# Altium integrated library TI_Logic_Specialty_Logic.IntLib: 2504 symbols (part 65 of 81)
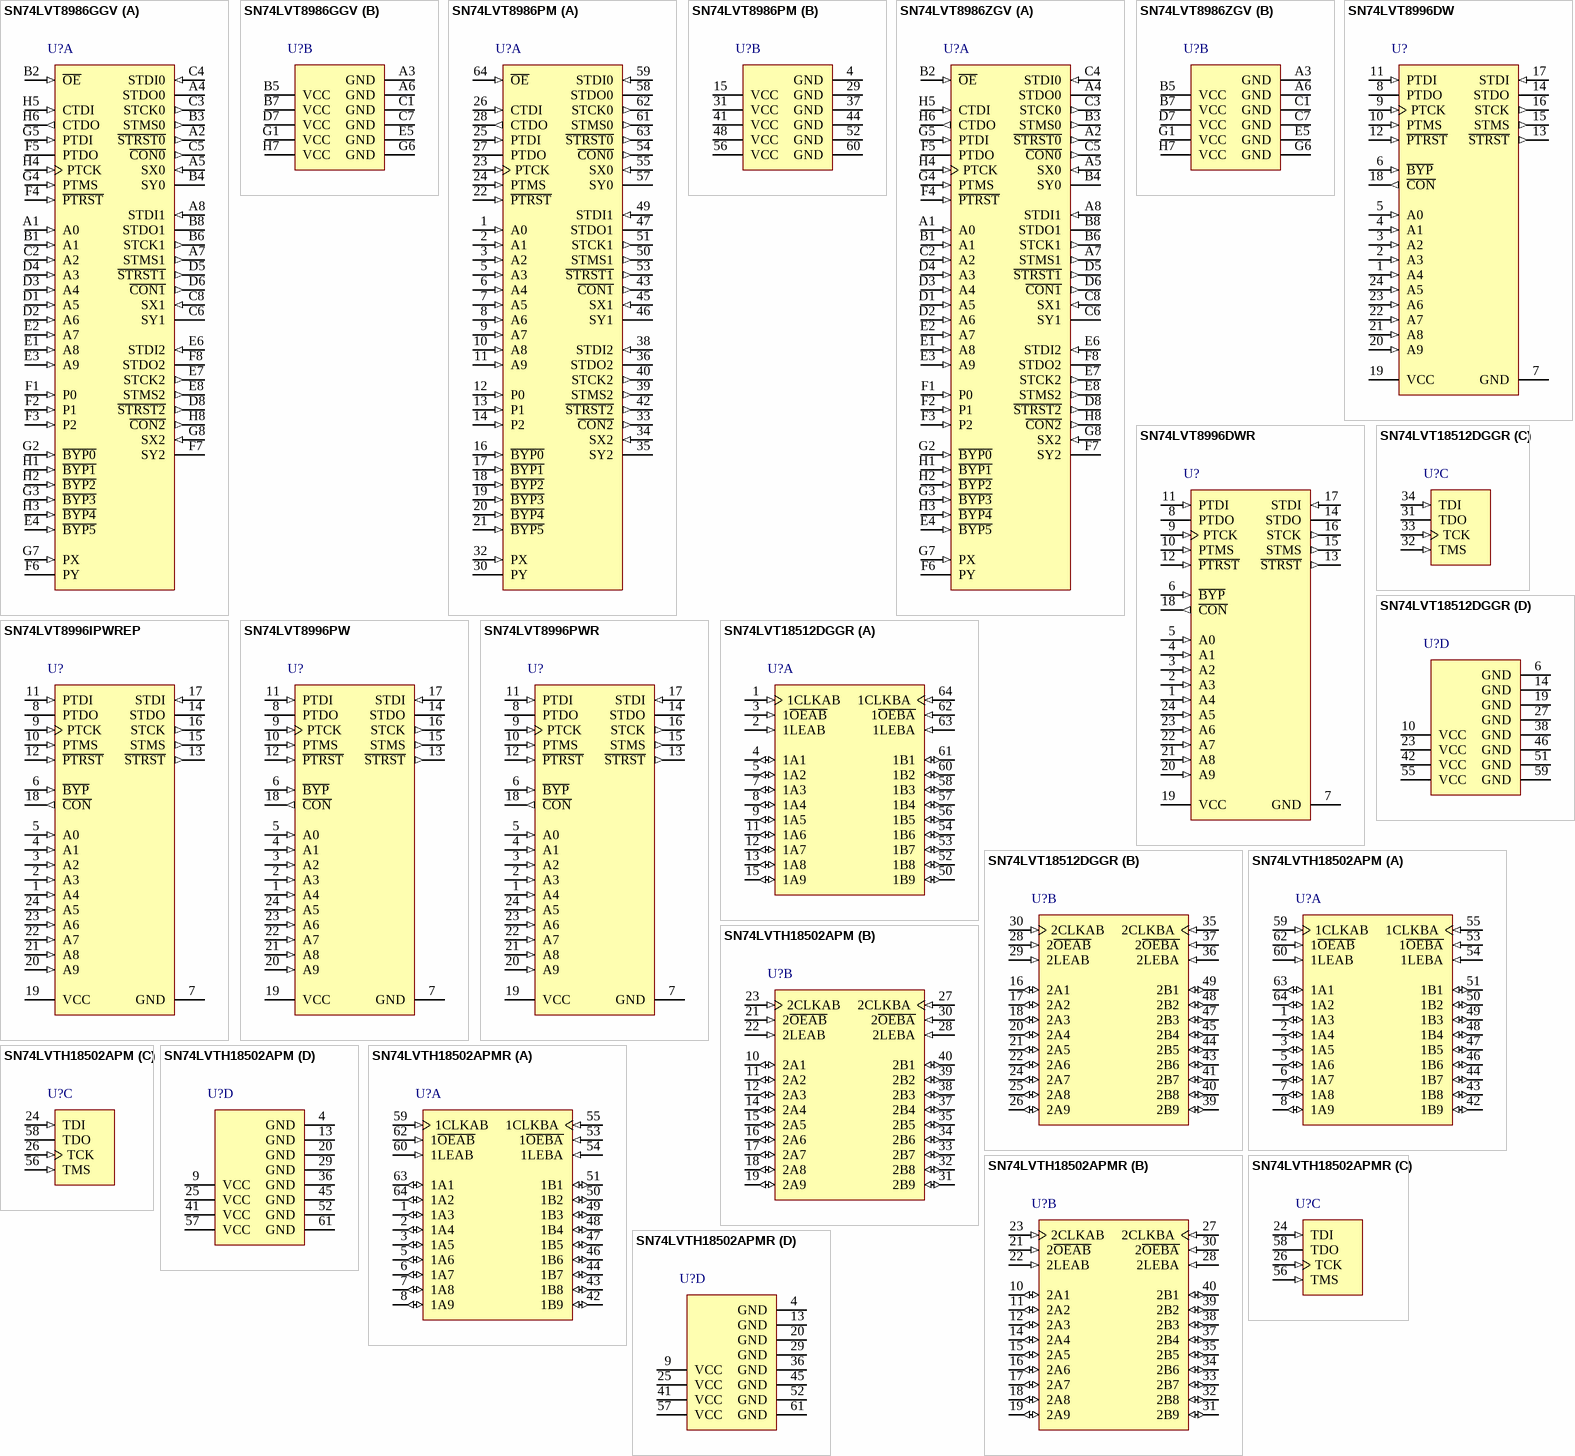
[diagram p168: symbols SN74LVT8986GGV to SN74LVTH18502APMR]

## SN74LVT8986GGV
designator U?
3.3-V Linking Addressable Scan Ports Multidrop-Addressable IEEE STD 1149.1 (JTAG) Tap Transceiver, GGV0064A, JEDEC TRAY (5+1); Generic Part Number: SN74LVT8986; Manufacturer: Texas Instruments; PartNumber: SN74LVT8986GGV; VCC(Min)(V): 2.7; VCC(Max)(V): 3.6; Output Type: LVTTL; Input Type: TTL/CMOS; Rating: Catalog; Technology Family: LVT; DatasheetVersion: SCBS759E; PackageReference: GGV0064A; Supplier 1: Mouser; Supplier Part Number 1: 595-SN74LVT8986GGV; Supplier 2: Digi-Key; Supplier Part Number 2: 296-14927-5-ND; Operating Temperature Range(C): -40 to 85; ComponentLink1Description: Manufacturer URL; ComponentLink1URL: http://www.ti.com/; ComponentLink2Description: Datasheet; ComponentLink2URL: http://www.ti.com/lit/ds/symlink/sn74lvt8986.pdf
footprint GGV0064A (BGA, 64-Leads, Body 8.00x8.00mmx1.40mm, Pitch 0.80mm)
part A pins: A1 A0 (in) "Address (inputs). The LASP compares addresses received via linking shadow protocol against the value at A9-A0 to determine address match. The bit order is from most significant to least significant. An internal pullup at (See Datasheet)", A2 ~{STRST0} (out) "Secondary test resets. S\T\R\S\T\2\-S\T\R\S\T\0\ retransmit the TRST signal allowed by IEEE Std 1149.1. The LASP always buffers S\T\R\S\T\2\-S\T\R\S\T\0\ from PTRST.", A4 STDO0 (hiz) "Secondary test data outputs. STDO2-STDO0 transmit the TDO signal required by IEEE Std 1149.1. Under BYP, BYP/TRST, MULTICAST, or ON status, the LASP buffers STDO2-STDO0 from STDI2-STDI0, PTDI, or CTDI, depending on the state (See Datasheet)", A5 SX0 (in) "Secondary pass through (inputs). General-purpose inputs that can be driven to the PY output of the primary TAP. An internal pullup forces SX2-SX0 to a high level if it has no external connection.", A7 STMS1 (out) "Secondary test mode selects. STMS2-STMS0 retransmit the TMS signal required by IEEE Std 1149.1. Under BYP, MULTICAST, or ON status, the LASP buffers STMS2-STMS0 from PTMS, depending on the state of B\Y\P\4\-B\Y\P\0\ pins or (See Datasheet)", A8 STDI1 (in) "Secondary test data inputs. STDI2-STDI0 receive the TDI signal required by IEEE Std 1149.1. Under BYP, BYP/TRST, or ON status, the LASP buffers STDI2-STDI0 to STDO2-STDO0 or PTDO, depending on the state of B\Y\P\4\-B\Y\P\0\ (See Datasheet)", B1 A1 (in) "Address (inputs). The LASP compares addresses received via linking shadow protocol against the value at A9-A0 to determine address match. The bit order is from most significant to least significant. An internal pullup at (See Datasheet)", B2 ~{OE} (in) "Output enable (input). When high, this active-low control signal puts the secondary TAPs of the LASP at high impedance to enable an alternative resource to access one or more of the three scan chains.", B3 STMS0 (out) "Secondary test mode selects. STMS2-STMS0 retransmit the TMS signal required by IEEE Std 1149.1. Under BYP, MULTICAST, or ON status, the LASP buffers STMS2-STMS0 from PTMS, depending on the state of B\Y\P\4\-B\Y\P\0\ pins or (See Datasheet)", B4 SY0 (hiz) "Secondary pass through (outputs). Primary pass-through input PX drives the general-purpose SY outputs of the secondary TAPs that are connected to the primary TAP. Disconnected secondary TAPs have their SY outputs at high (See Datasheet)", B6 STCK1 (out) "Secondary test clocks. STCK2-STCK0 retransmit the TCK signal required by IEEE Std 1149.1. The LASP always buffers STCK2-STCK0 from PTCK.", B8 STDO1 (hiz) "Secondary test data outputs. STDO2-STDO0 transmit the TDO signal required by IEEE Std 1149.1. Under BYP, BYP/TRST, MULTICAST, or ON status, the LASP buffers STDO2-STDO0 from STDI2-STDI0, PTDI, or CTDI, depending on the state (See Datasheet)", C2 A2 (in) "Address (inputs). The LASP compares addresses received via linking shadow protocol against the value at A9-A0 to determine address match. The bit order is from most significant to least significant. An internal pullup at (See Datasheet)", C3 STCK0 (out) "Secondary test clocks. STCK2-STCK0 retransmit the TCK signal required by IEEE Std 1149.1. The LASP always buffers STCK2-STCK0 from PTCK.", C4 STDI0 (in) "Secondary test data inputs. STDI2-STDI0 receive the TDI signal required by IEEE Std 1149.1. Under BYP, BYP/TRST, or ON status, the LASP buffers STDI2-STDI0 to STDO2-STDO0 or PTDO, depending on the state of B\Y\P\4\-B\Y\P\0\ (See Datasheet)", C5 ~{CON0} (out) "Connect indicators (outputs). The LASP indicates secondary-scan-port activity (resulting from BYP, BYP/TRST, MULTICAST, or ON status) by forcing the corresponding C\O\N\ bit to be low. Inactivity (resulting from OFF, RESET, (See Datasheet)", C6 SY1 (hiz) "Secondary pass through (outputs). Primary pass-through input PX drives the general-purpose SY outputs of the secondary TAPs that are connected to the primary TAP. Disconnected secondary TAPs have their SY outputs at high (See Datasheet)", C8 SX1 (in) "Secondary pass through (inputs). General-purpose inputs that can be driven to the PY output of the primary TAP. An internal pullup forces SX2-SX0 to a high level if it has no external connection.", D1 A5 (in) "Address (inputs). The LASP compares addresses received via linking shadow protocol against the value at A9-A0 to determine address match. The bit order is from most significant to least significant. An internal pullup at (See Datasheet)", D2 A6 (in) "Address (inputs). The LASP compares addresses received via linking shadow protocol against the value at A9-A0 to determine address match. The bit order is from most significant to least significant. An internal pullup at (See Datasheet)", D3 A4 (in) "Address (inputs). The LASP compares addresses received via linking shadow protocol against the value at A9-A0 to determine address match. The bit order is from most significant to least significant. An internal pullup at (See Datasheet)", D4 A3 (in) "Address (inputs). The LASP compares addresses received via linking shadow protocol against the value at A9-A0 to determine address match. The bit order is from most significant to least significant. An internal pullup at (See Datasheet)", D5 ~{STRST1} (out) "Secondary test resets. S\T\R\S\T\2\-S\T\R\S\T\0\ retransmit the TRST signal allowed by IEEE Std 1149.1. The LASP always buffers S\T\R\S\T\2\-S\T\R\S\T\0\ from PTRST.", D6 ~{CON1} (out) "Connect indicators (outputs). The LASP indicates secondary-scan-port activity (resulting from BYP, BYP/TRST, MULTICAST, or ON status) by forcing the corresponding C\O\N\ bit to be low. Inactivity (resulting from OFF, RESET, (See Datasheet)", D8 ~{STRST2} (out) "Secondary test resets. S\T\R\S\T\2\-S\T\R\S\T\0\ retransmit the TRST signal allowed by IEEE Std 1149.1. The LASP always buffers S\T\R\S\T\2\-S\T\R\S\T\0\ from PTRST.", E1 A8 (in) "Address (inputs). The LASP compares addresses received via linking shadow protocol against the value at A9-A0 to determine address match. The bit order is from most significant to least significant. An internal pullup at (See Datasheet)", E2 A7 (in) "Address (inputs). The LASP compares addresses received via linking shadow protocol against the value at A9-A0 to determine address match. The bit order is from most significant to least significant. An internal pullup at (See Datasheet)", E3 A9 (in) "Address (inputs). The LASP compares addresses received via linking shadow protocol against the value at A9-A0 to determine address match. The bit order is from most significant to least significant. An internal pullup at (See Datasheet)", E4 ~{BYP5} (in) "Bypass (inputs). A low input at B\Y\P\5\ forces the LASP into BYP or BYP/TRST status, depending on P\T\R\S\T\ being high or low, respectively. While B\Y\P\5\ is low, linking shadow protocols are ignored and the remaining (See Datasheet)", E6 STDI2 (in) "Secondary test data inputs. STDI2-STDI0 receive the TDI signal required by IEEE Std 1149.1. Under BYP, BYP/TRST, or ON status, the LASP buffers STDI2-STDI0 to STDO2-STDO0 or PTDO, depending on the state of B\Y\P\4\-B\Y\P\0\ (See Datasheet)", E7 STCK2 (out) "Secondary test clocks. STCK2-STCK0 retransmit the TCK signal required by IEEE Std 1149.1. The LASP always buffers STCK2-STCK0 from PTCK.", E8 STMS2 (out) "Secondary test mode selects. STMS2-STMS0 retransmit the TMS signal required by IEEE Std 1149.1. Under BYP, MULTICAST, or ON status, the LASP buffers STMS2-STMS0 from PTMS, depending on the state of B\Y\P\4\-B\Y\P\0\ pins or (See Datasheet)", F1 P0 (in) "Position (inputs). The LASP compares position received via linking shadow protocol against the value at P2-P0 to determine position match. The bit order is from most significant to least significant. An internal pullup at (See Datasheet)", F2 P1 (in) "Position (inputs). The LASP compares position received via linking shadow protocol against the value at P2-P0 to determine position match. The bit order is from most significant to least significant. An internal pullup at (See Datasheet)", F3 P2 (in) "Position (inputs). The LASP compares position received via linking shadow protocol against the value at P2-P0 to determine position match. The bit order is from most significant to least significant. An internal pullup at (See Datasheet)", F4 ~{PTRST} (in) "Primary test reset. P\T\R\S\T\ receives the T\R\S\T\ signal allowed by IEEE Std 1149.1. The LASP always buffers P\T\R\S\T\ to S\T\R\S\T\2\-S\T\R\S\T\0\. A low input at P\T\R\S\T\ forces the LASP to assume TRST or BYP/TRST (See Datasheet)", F5 PTDO (hiz) "Primary test data output. PTDO transmits the TDO signal required by IEEE Std 1149.1. During linking shadow protocols, the LASP transmits any required acknowledgment via the PTDO. Under BYP, BYP/TRST, or ON status, the LASP (See Datasheet)", F6 PY (hiz) "Primary pass through (output). A general-purpose output that can be driven from SX2-SX0.", F7 SY2 (hiz) "Secondary pass through (outputs). Primary pass-through input PX drives the general-purpose SY outputs of the secondary TAPs that are connected to the primary TAP. Disconnected secondary TAPs have their SY outputs at high (See Datasheet)", F8 STDO2 (hiz) "Secondary test data outputs. STDO2-STDO0 transmit the TDO signal required by IEEE Std 1149.1. Under BYP, BYP/TRST, MULTICAST, or ON status, the LASP buffers STDO2-STDO0 from STDI2-STDI0, PTDI, or CTDI, depending on the state (See Datasheet)", G2 ~{BYP0} (in) "Bypass (inputs). A low input at B\Y\P\5\ forces the LASP into BYP or BYP/TRST status, depending on P\T\R\S\T\ being high or low, respectively. While B\Y\P\5\ is low, linking shadow protocols are ignored and the remaining (See Datasheet)", G3 ~{BYP3} (in) "Bypass (inputs). A low input at B\Y\P\5\ forces the LASP into BYP or BYP/TRST status, depending on P\T\R\S\T\ being high or low, respectively. While B\Y\P\5\ is low, linking shadow protocols are ignored and the remaining (See Datasheet)", G4 PTMS (in) "Primary test mode select. PTMS receives the TMS signal required by IEEE Std 1149.1. The LASP monitors PTMS to determine the TAP-controller state. During stable TAP states, other than Shift-DR or Shift-IR (i.e., (See Datasheet)", G5 PTDI (in) "Primary test data input. PTDI receives the TDI signal required by IEEE Std 1149.1. During appropriate TAP states, the LASP monitors PTDI for linking shadow protocols. During linking shadow protocols, data at PTDI is captured (See Datasheet)", G7 PX (in) "Primary pass through (input). A general-purpose input driven to SY outputs of the secondary TAPs that are connected to the primary TAP. An internal pullup forces PX to a high level if it has no external connection.", G8 SX2 (in) "Secondary pass through (inputs). General-purpose inputs that can be driven to the PY output of the primary TAP. An internal pullup forces SX2-SX0 to a high level if it has no external connection.", H1 ~{BYP1} (in) "Bypass (inputs). A low input at B\Y\P\5\ forces the LASP into BYP or BYP/TRST status, depending on P\T\R\S\T\ being high or low, respectively. While B\Y\P\5\ is low, linking shadow protocols are ignored and the remaining (See Datasheet)", H2 ~{BYP2} (in) "Bypass (inputs). A low input at B\Y\P\5\ forces the LASP into BYP or BYP/TRST status, depending on P\T\R\S\T\ being high or low, respectively. While B\Y\P\5\ is low, linking shadow protocols are ignored and the remaining (See Datasheet)", H3 ~{BYP4} (in) "Bypass (inputs). A low input at B\Y\P\5\ forces the LASP into BYP or BYP/TRST status, depending on P\T\R\S\T\ being high or low, respectively. While B\Y\P\5\ is low, linking shadow protocols are ignored and the remaining (See Datasheet)", H4 PTCK (in) "Primary test clock. PTCK receives the TCK signal required by IEEE Std 1149.1. The LASP always buffers PTCK to STCK2-STCK0. Linking shadow protocols are received/acknowledged synchronously to PTCK and connect-status changes (See Datasheet)", H5 CTDI (in) "Cascade test data input. CTDI facilitates cascading multiple LASPs. CTDI is connected to CTDO of the preceding LASP in the cascade chain. When the LASP is the first device in the cascade chain or is not cascaded to any other (See Datasheet)", H6 CTDO (out) "Cascade test data output. CTDO facilitates cascading multiple LASPs. CTDO is connected to CTDI of the succeeding LASP in the cascade chain. The LASP buffers CTDO from STDI2-STDI0 or CTDI, depending on the state of (See Datasheet)", H8 ~{CON2} (out) "Connect indicators (outputs). The LASP indicates secondary-scan-port activity (resulting from BYP, BYP/TRST, MULTICAST, or ON status) by forcing the corresponding C\O\N\ bit to be low. Inactivity (resulting from OFF, RESET, (See Datasheet)"
part B pins: A3 GND (power) "Ground", A6 GND (power) "Ground", B5 VCC (power) "Supply voltage", B7 VCC (power) "Supply voltage", C1 GND (power) "Ground", C7 GND (power) "Ground", D7 VCC (power) "Supply voltage", E5 GND (power) "Ground", G1 VCC (power) "Supply voltage", G6 GND (power) "Ground", H7 VCC (power) "Supply voltage"

## SN74LVT8986PM
designator U?
3.3-V Linking Addressable Scan Ports Multidrop-Addressable IEEE STD 1149.1 (JTAG) Tap Transceiver, PM0064A, JEDEC TRAY (10+1); Generic Part Number: SN74LVT8986; Manufacturer: Texas Instruments; PartNumber: SN74LVT8986PM; VCC(Min)(V): 2.7; VCC(Max)(V): 3.6; Output Type: LVTTL; Input Type: TTL/CMOS; Rating: Catalog; Technology Family: LVT; DatasheetVersion: SCBS759E; PackageReference: PM0064A; Supplier 1: Mouser; Supplier Part Number 1: 595-SN74LVT8986PM; Supplier 2: Digi-Key; Supplier Part Number 2: 296-14928-5-ND; Operating Temperature Range(C): -40 to 85; ComponentLink1Description: Manufacturer URL; ComponentLink1URL: http://www.ti.com/; ComponentLink2Description: Datasheet; ComponentLink2URL: http://www.ti.com/lit/ds/symlink/sn74lvt8986.pdf
footprint PM0064A_N (QFP, 64-Leads, Body 10x10mm, Pitch 0.5mm, IPC Medium Density)
footprint PM0064A_M (QFP, 64-Leads, Body 10x10mm, Pitch 0.5mm, IPC Low Density)
footprint PM0064A_L (QFP, 64-Leads, Body 10x10mm, Pitch 0.5mm, IPC High Density)
part A pins: 1 A0 (in) "Address (inputs). The LASP compares addresses received via linking shadow protocol against the value at A9-A0 to determine address match. The bit order is from most significant to least significant. An internal pullup at (See Datasheet)", 2 A1 (in) "Address (inputs). The LASP compares addresses received via linking shadow protocol against the value at A9-A0 to determine address match. The bit order is from most significant to least significant. An internal pullup at (See Datasheet)", 3 A2 (in) "Address (inputs). The LASP compares addresses received via linking shadow protocol against the value at A9-A0 to determine address match. The bit order is from most significant to least significant. An internal pullup at (See Datasheet)", 5 A3 (in) "Address (inputs). The LASP compares addresses received via linking shadow protocol against the value at A9-A0 to determine address match. The bit order is from most significant to least significant. An internal pullup at (See Datasheet)", 6 A4 (in) "Address (inputs). The LASP compares addresses received via linking shadow protocol against the value at A9-A0 to determine address match. The bit order is from most significant to least significant. An internal pullup at (See Datasheet)", 7 A5 (in) "Address (inputs). The LASP compares addresses received via linking shadow protocol against the value at A9-A0 to determine address match. The bit order is from most significant to least significant. An internal pullup at (See Datasheet)", 8 A6 (in) "Address (inputs). The LASP compares addresses received via linking shadow protocol against the value at A9-A0 to determine address match. The bit order is from most significant to least significant. An internal pullup at (See Datasheet)", 9 A7 (in) "Address (inputs). The LASP compares addresses received via linking shadow protocol against the value at A9-A0 to determine address match. The bit order is from most significant to least significant. An internal pullup at (See Datasheet)", 10 A8 (in) "Address (inputs). The LASP compares addresses received via linking shadow protocol against the value at A9-A0 to determine address match. The bit order is from most significant to least significant. An internal pullup at (See Datasheet)", 11 A9 (in) "Address (inputs). The LASP compares addresses received via linking shadow protocol against the value at A9-A0 to determine address match. The bit order is from most significant to least significant. An internal pullup at (See Datasheet)", 12 P0 (in) "Position (inputs). The LASP compares position received via linking shadow protocol against the value at P2-P0 to determine position match. The bit order is from most significant to least significant. An internal pullup at (See Datasheet)", 13 P1 (in) "Position (inputs). The LASP compares position received via linking shadow protocol against the value at P2-P0 to determine position match. The bit order is from most significant to least significant. An internal pullup at (See Datasheet)", 14 P2 (in) "Position (inputs). The LASP compares position received via linking shadow protocol against the value at P2-P0 to determine position match. The bit order is from most significant to least significant. An internal pullup at (See Datasheet)", 16 ~{BYP0} (in) "Bypass (inputs). A low input at B\Y\P\5\ forces the LASP into BYP or BYP/TRST status, depending on P\T\R\S\T\ being high or low, respectively. While B\Y\P\5\ is low, linking shadow protocols are ignored and the remaining (See Datasheet)", 17 ~{BYP1} (in) "Bypass (inputs). A low input at B\Y\P\5\ forces the LASP into BYP or BYP/TRST status, depending on P\T\R\S\T\ being high or low, respectively. While B\Y\P\5\ is low, linking shadow protocols are ignored and the remaining (See Datasheet)", 18 ~{BYP2} (in) "Bypass (inputs). A low input at B\Y\P\5\ forces the LASP into BYP or BYP/TRST status, depending on P\T\R\S\T\ being high or low, respectively. While B\Y\P\5\ is low, linking shadow protocols are ignored and the remaining (See Datasheet)", 19 ~{BYP3} (in) "Bypass (inputs). A low input at B\Y\P\5\ forces the LASP into BYP or BYP/TRST status, depending on P\T\R\S\T\ being high or low, respectively. While B\Y\P\5\ is low, linking shadow protocols are ignored and the remaining (See Datasheet)", 20 ~{BYP4} (in) "Bypass (inputs). A low input at B\Y\P\5\ forces the LASP into BYP or BYP/TRST status, depending on P\T\R\S\T\ being high or low, respectively. While B\Y\P\5\ is low, linking shadow protocols are ignored and the remaining (See Datasheet)", 21 ~{BYP5} (in) "Bypass (inputs). A low input at B\Y\P\5\ forces the LASP into BYP or BYP/TRST status, depending on P\T\R\S\T\ being high or low, respectively. While B\Y\P\5\ is low, linking shadow protocols are ignored and the remaining (See Datasheet)", 22 ~{PTRST} (in) "Primary test reset. P\T\R\S\T\ receives the T\R\S\T\ signal allowed by IEEE Std 1149.1. The LASP always buffers P\T\R\S\T\ to S\T\R\S\T\2\-S\T\R\S\T\0\. A low input at P\T\R\S\T\ forces the LASP to assume TRST or BYP/TRST (See Datasheet)", 23 PTCK (in) "Primary test clock. PTCK receives the TCK signal required by IEEE Std 1149.1. The LASP always buffers PTCK to STCK2-STCK0. Linking shadow protocols are received/acknowledged synchronously to PTCK and connect-status changes (See Datasheet)", 24 PTMS (in) "Primary test mode select. PTMS receives the TMS signal required by IEEE Std 1149.1. The LASP monitors PTMS to determine the TAP-controller state. During stable TAP states, other than Shift-DR or Shift-IR (i.e., (See Datasheet)", 25 PTDI (in) "Primary test data input. PTDI receives the TDI signal required by IEEE Std 1149.1. During appropriate TAP states, the LASP monitors PTDI for linking shadow protocols. During linking shadow protocols, data at PTDI is captured (See Datasheet)", 26 CTDI (in) "Cascade test data input. CTDI facilitates cascading multiple LASPs. CTDI is connected to CTDO of the preceding LASP in the cascade chain. When the LASP is the first device in the cascade chain or is not cascaded to any other (See Datasheet)", 27 PTDO (hiz) "Primary test data output. PTDO transmits the TDO signal required by IEEE Std 1149.1. During linking shadow protocols, the LASP transmits any required acknowledgment via the PTDO. Under BYP, BYP/TRST, or ON status, the LASP (See Datasheet)", 28 CTDO (out) "Cascade test data output. CTDO facilitates cascading multiple LASPs. CTDO is connected to CTDI of the succeeding LASP in the cascade chain. The LASP buffers CTDO from STDI2-STDI0 or CTDI, depending on the state of (See Datasheet)", 30 PY (hiz) "Primary pass through (output). A general-purpose output that can be driven from SX2-SX0.", 32 PX (in) "Primary pass through (input). A general-purpose input driven to SY outputs of the secondary TAPs that are connected to the primary TAP. An internal pullup forces PX to a high level if it has no external connection.", 33 ~{CON2} (out) "Connect indicators (outputs). The LASP indicates secondary-scan-port activity (resulting from BYP, BYP/TRST, MULTICAST, or ON status) by forcing the corresponding C\O\N\ bit to be low. Inactivity (resulting from OFF, RESET, (See Datasheet)", 34 SX2 (in) "Secondary pass through (inputs). General-purpose inputs that can be driven to the PY output of the primary TAP. An internal pullup forces SX2-SX0 to a high level if it has no external connection.", 35 SY2 (hiz) "Secondary pass through (outputs). Primary pass-through input PX drives the general-purpose SY outputs of the secondary TAPs that are connected to the primary TAP. Disconnected secondary TAPs have their SY outputs at high (See Datasheet)", 36 STDO2 (hiz) "Secondary test data outputs. STDO2-STDO0 transmit the TDO signal required by IEEE Std 1149.1. Under BYP, BYP/TRST, MULTICAST, or ON status, the LASP buffers STDO2-STDO0 from STDI2-STDI0, PTDI, or CTDI, depending on the state (See Datasheet)", 38 STDI2 (in) "Secondary test data inputs. STDI2-STDI0 receive the TDI signal required by IEEE Std 1149.1. Under BYP, BYP/TRST, or ON status, the LASP buffers STDI2-STDI0 to STDO2-STDO0 or PTDO, depending on the state of B\Y\P\4\-B\Y\P\0\ (See Datasheet)", 39 STMS2 (out) "Secondary test mode selects. STMS2-STMS0 retransmit the TMS signal required by IEEE Std 1149.1. Under BYP, MULTICAST, or ON status, the LASP buffers STMS2-STMS0 from PTMS, depending on the state of B\Y\P\4\-B\Y\P\0\ pins or (See Datasheet)", 40 STCK2 (out) "Secondary test clocks. STCK2-STCK0 retransmit the TCK signal required by IEEE Std 1149.1. The LASP always buffers STCK2-STCK0 from PTCK.", 42 ~{STRST2} (out) "Secondary test resets. S\T\R\S\T\2\-S\T\R\S\T\0\ retransmit the TRST signal allowed by IEEE Std 1149.1. The LASP always buffers S\T\R\S\T\2\-S\T\R\S\T\0\ from PTRST.", 43 ~{CON1} (out) "Connect indicators (outputs). The LASP indicates secondary-scan-port activity (resulting from BYP, BYP/TRST, MULTICAST, or ON status) by forcing the corresponding C\O\N\ bit to be low. Inactivity (resulting from OFF, RESET, (See Datasheet)", 45 SX1 (in) "Secondary pass through (inputs). General-purpose inputs that can be driven to the PY output of the primary TAP. An internal pullup forces SX2-SX0 to a high level if it has no external connection.", 46 SY1 (hiz) "Secondary pass through (outputs). Primary pass-through input PX drives the general-purpose SY outputs of the secondary TAPs that are connected to the primary TAP. Disconnected secondary TAPs have their SY outputs at high (See Datasheet)", 47 STDO1 (hiz) "Secondary test data outputs. STDO2-STDO0 transmit the TDO signal required by IEEE Std 1149.1. Under BYP, BYP/TRST, MULTICAST, or ON status, the LASP buffers STDO2-STDO0 from STDI2-STDI0, PTDI, or CTDI, depending on the state (See Datasheet)", 49 STDI1 (in) "Secondary test data inputs. STDI2-STDI0 receive the TDI signal required by IEEE Std 1149.1. Under BYP, BYP/TRST, or ON status, the LASP buffers STDI2-STDI0 to STDO2-STDO0 or PTDO, depending on the state of B\Y\P\4\-B\Y\P\0\ (See Datasheet)", 50 STMS1 (out) "Secondary test mode selects. STMS2-STMS0 retransmit the TMS signal required by IEEE Std 1149.1. Under BYP, MULTICAST, or ON status, the LASP buffers STMS2-STMS0 from PTMS, depending on the state of B\Y\P\4\-B\Y\P\0\ pins or (See Datasheet)", 51 STCK1 (out) "Secondary test clocks. STCK2-STCK0 retransmit the TCK signal required by IEEE Std 1149.1. The LASP always buffers STCK2-STCK0 from PTCK.", 53 ~{STRST1} (out) "Secondary test resets. S\T\R\S\T\2\-S\T\R\S\T\0\ retransmit the TRST signal allowed by IEEE Std 1149.1. The LASP always buffers S\T\R\S\T\2\-S\T\R\S\T\0\ from PTRST.", 54 ~{CON0} (out) "Connect indicators (outputs). The LASP indicates secondary-scan-port activity (resulting from BYP, BYP/TRST, MULTICAST, or ON status) by forcing the corresponding C\O\N\ bit to be low. Inactivity (resulting from OFF, RESET, (See Datasheet)", 55 SX0 (in) "Secondary pass through (inputs). General-purpose inputs that can be driven to the PY output of the primary TAP. An internal pullup forces SX2-SX0 to a high level if it has no external connection.", 57 SY0 (hiz) "Secondary pass through (outputs). Primary pass-through input PX drives the general-purpose SY outputs of the secondary TAPs that are connected to the primary TAP. Disconnected secondary TAPs have their SY outputs at high (See Datasheet)", 58 STDO0 (hiz) "Secondary test data outputs. STDO2-STDO0 transmit the TDO signal required by IEEE Std 1149.1. Under BYP, BYP/TRST, MULTICAST, or ON status, the LASP buffers STDO2-STDO0 from STDI2-STDI0, PTDI, or CTDI, depending on the state (See Datasheet)", 59 STDI0 (in) "Secondary test data inputs. STDI2-STDI0 receive the TDI signal required by IEEE Std 1149.1. Under BYP, BYP/TRST, or ON status, the LASP buffers STDI2-STDI0 to STDO2-STDO0 or PTDO, depending on the state of B\Y\P\4\-B\Y\P\0\ (See Datasheet)", 61 STMS0 (out) "Secondary test mode selects. STMS2-STMS0 retransmit the TMS signal required by IEEE Std 1149.1. Under BYP, MULTICAST, or ON status, the LASP buffers STMS2-STMS0 from PTMS, depending on the state of B\Y\P\4\-B\Y\P\0\ pins or (See Datasheet)", 62 STCK0 (out) "Secondary test clocks. STCK2-STCK0 retransmit the TCK signal required by IEEE Std 1149.1. The LASP always buffers STCK2-STCK0 from PTCK.", 63 ~{STRST0} (out) "Secondary test resets. S\T\R\S\T\2\-S\T\R\S\T\0\ retransmit the TRST signal allowed by IEEE Std 1149.1. The LASP always buffers S\T\R\S\T\2\-S\T\R\S\T\0\ from PTRST.", 64 ~{OE} (in) "Output enable (input). When high, this active-low control signal puts the secondary TAPs of the LASP at high impedance to enable an alternative resource to access one or more of the three scan chains."
part B pins: 4 GND (power) "Ground", 15 VCC (power) "Supply voltage", 29 GND (power) "Ground", 31 VCC (power) "Supply voltage", 37 GND (power) "Ground", 41 VCC (power) "Supply voltage", 44 GND (power) "Ground", 48 VCC (power) "Supply voltage", 52 GND (power) "Ground", 56 VCC (power) "Supply voltage", 60 GND (power) "Ground"

## SN74LVT8986ZGV
designator U?
3.3-V Linking Addressable Scan Ports Multidrop-Addressable IEEE STD 1149.1 (JTAG) Tap Transceiver, ZGV0064A, JEDEC TRAY (5+1); Generic Part Number: SN74LVT8986; Manufacturer: Texas Instruments; PartNumber: SN74LVT8986ZGV; VCC(Min)(V): 2.7; VCC(Max)(V): 3.6; Output Type: LVTTL; Input Type: TTL/CMOS; Rating: Catalog; Technology Family: LVT; DatasheetVersion: SCBS759E; PackageReference: ZGV0064A; Supplier 1: Mouser; Supplier Part Number 1: 595-SN74LVT8986ZGV; Supplier 2: Digi-Key; Supplier Part Number 2: SN74LVT8986ZGV-ND; Operating Temperature Range(C): -40 to 85; ComponentLink1Description: Manufacturer URL; ComponentLink1URL: http://www.ti.com/; ComponentLink2Description: Datasheet; ComponentLink2URL: http://www.ti.com/lit/ds/symlink/sn74lvt8986.pdf
footprint ZGV0064A (BGA, 64-Leads, Body 8.00x8.00mmx1.40mm, Pitch 0.80mm)
part A pins: A1 A0 (in) "Address (inputs). The LASP compares addresses received via linking shadow protocol against the value at A9-A0 to determine address match. The bit order is from most significant to least significant. An internal pullup at (See Datasheet)", A2 ~{STRST0} (out) "Secondary test resets. S\T\R\S\T\2\-S\T\R\S\T\0\ retransmit the TRST signal allowed by IEEE Std 1149.1. The LASP always buffers S\T\R\S\T\2\-S\T\R\S\T\0\ from PTRST.", A4 STDO0 (hiz) "Secondary test data outputs. STDO2-STDO0 transmit the TDO signal required by IEEE Std 1149.1. Under BYP, BYP/TRST, MULTICAST, or ON status, the LASP buffers STDO2-STDO0 from STDI2-STDI0, PTDI, or CTDI, depending on the state (See Datasheet)", A5 SX0 (in) "Secondary pass through (inputs). General-purpose inputs that can be driven to the PY output of the primary TAP. An internal pullup forces SX2-SX0 to a high level if it has no external connection.", A7 STMS1 (out) "Secondary test mode selects. STMS2-STMS0 retransmit the TMS signal required by IEEE Std 1149.1. Under BYP, MULTICAST, or ON status, the LASP buffers STMS2-STMS0 from PTMS, depending on the state of B\Y\P\4\-B\Y\P\0\ pins or (See Datasheet)", A8 STDI1 (in) "Secondary test data inputs. STDI2-STDI0 receive the TDI signal required by IEEE Std 1149.1. Under BYP, BYP/TRST, or ON status, the LASP buffers STDI2-STDI0 to STDO2-STDO0 or PTDO, depending on the state of B\Y\P\4\-B\Y\P\0\ (See Datasheet)", B1 A1 (in) "Address (inputs). The LASP compares addresses received via linking shadow protocol against the value at A9-A0 to determine address match. The bit order is from most significant to least significant. An internal pullup at (See Datasheet)", B2 ~{OE} (in) "Output enable (input). When high, this active-low control signal puts the secondary TAPs of the LASP at high impedance to enable an alternative resource to access one or more of the three scan chains.", B3 STMS0 (out) "Secondary test mode selects. STMS2-STMS0 retransmit the TMS signal required by IEEE Std 1149.1. Under BYP, MULTICAST, or ON status, the LASP buffers STMS2-STMS0 from PTMS, depending on the state of B\Y\P\4\-B\Y\P\0\ pins or (See Datasheet)", B4 SY0 (hiz) "Secondary pass through (outputs). Primary pass-through input PX drives the general-purpose SY outputs of the secondary TAPs that are connected to the primary TAP. Disconnected secondary TAPs have their SY outputs at high (See Datasheet)", B6 STCK1 (out) "Secondary test clocks. STCK2-STCK0 retransmit the TCK signal required by IEEE Std 1149.1. The LASP always buffers STCK2-STCK0 from PTCK.", B8 STDO1 (hiz) "Secondary test data outputs. STDO2-STDO0 transmit the TDO signal required by IEEE Std 1149.1. Under BYP, BYP/TRST, MULTICAST, or ON status, the LASP buffers STDO2-STDO0 from STDI2-STDI0, PTDI, or CTDI, depending on the state (See Datasheet)", C2 A2 (in) "Address (inputs). The LASP compares addresses received via linking shadow protocol against the value at A9-A0 to determine address match. The bit order is from most significant to least significant. An internal pullup at (See Datasheet)", C3 STCK0 (out) "Secondary test clocks. STCK2-STCK0 retransmit the TCK signal required by IEEE Std 1149.1. The LASP always buffers STCK2-STCK0 from PTCK.", C4 STDI0 (in) "Secondary test data inputs. STDI2-STDI0 receive the TDI signal required by IEEE Std 1149.1. Under BYP, BYP/TRST, or ON status, the LASP buffers STDI2-STDI0 to STDO2-STDO0 or PTDO, depending on the state of B\Y\P\4\-B\Y\P\0\ (See Datasheet)", C5 ~{CON0} (out) "Connect indicators (outputs). The LASP indicates secondary-scan-port activity (resulting from BYP, BYP/TRST, MULTICAST, or ON status) by forcing the corresponding C\O\N\ bit to be low. Inactivity (resulting from OFF, RESET, (See Datasheet)", C6 SY1 (hiz) "Secondary pass through (outputs). Primary pass-through input PX drives the general-purpose SY outputs of the secondary TAPs that are connected to the primary TAP. Disconnected secondary TAPs have their SY outputs at high (See Datasheet)", C8 SX1 (in) "Secondary pass through (inputs). General-purpose inputs that can be driven to the PY output of the primary TAP. An internal pullup forces SX2-SX0 to a high level if it has no external connection.", D1 A5 (in) "Address (inputs). The LASP compares addresses received via linking shadow protocol against the value at A9-A0 to determine address match. The bit order is from most significant to least significant. An internal pullup at (See Datasheet)", D2 A6 (in) "Address (inputs). The LASP compares addresses received via linking shadow protocol against the value at A9-A0 to determine address match. The bit order is from most significant to least significant. An internal pullup at (See Datasheet)", D3 A4 (in) "Address (inputs). The LASP compares addresses received via linking shadow protocol against the value at A9-A0 to determine address match. The bit order is from most significant to least significant. An internal pullup at (See Datasheet)", D4 A3 (in) "Address (inputs). The LASP compares addresses received via linking shadow protocol against the value at A9-A0 to determine address match. The bit order is from most significant to least significant. An internal pullup at (See Datasheet)", D5 ~{STRST1} (out) "Secondary test resets. S\T\R\S\T\2\-S\T\R\S\T\0\ retransmit the TRST signal allowed by IEEE Std 1149.1. The LASP always buffers S\T\R\S\T\2\-S\T\R\S\T\0\ from PTRST.", D6 ~{CON1} (out) "Connect indicators (outputs). The LASP indicates secondary-scan-port activity (resulting from BYP, BYP/TRST, MULTICAST, or ON status) by forcing the corresponding C\O\N\ bit to be low. Inactivity (resulting from OFF, RESET, (See Datasheet)", D8 ~{STRST2} (out) "Secondary test resets. S\T\R\S\T\2\-S\T\R\S\T\0\ retransmit the TRST signal allowed by IEEE Std 1149.1. The LASP always buffers S\T\R\S\T\2\-S\T\R\S\T\0\ from PTRST.", E1 A8 (in) "Address (inputs). The LASP compares addresses received via linking shadow protocol against the value at A9-A0 to determine address match. The bit order is from most significant to least significant. An internal pullup at (See Datasheet)", E2 A7 (in) "Address (inputs). The LASP compares addresses received via linking shadow protocol against the value at A9-A0 to determine address match. The bit order is from most significant to least significant. An internal pullup at (See Datasheet)", E3 A9 (in) "Address (inputs). The LASP compares addresses received via linking shadow protocol against the value at A9-A0 to determine address match. The bit order is from most significant to least significant. An internal pullup at (See Datasheet)", E4 ~{BYP5} (in) "Bypass (inputs). A low input at B\Y\P\5\ forces the LASP into BYP or BYP/TRST status, depending on P\T\R\S\T\ being high or low, respectively. While B\Y\P\5\ is low, linking shadow protocols are ignored and the remaining (See Datasheet)", E6 STDI2 (in) "Secondary test data inputs. STDI2-STDI0 receive the TDI signal required by IEEE Std 1149.1. Under BYP, BYP/TRST, or ON status, the LASP buffers STDI2-STDI0 to STDO2-STDO0 or PTDO, depending on the state of B\Y\P\4\-B\Y\P\0\ (See Datasheet)", E7 STCK2 (out) "Secondary test clocks. STCK2-STCK0 retransmit the TCK signal required by IEEE Std 1149.1. The LASP always buffers STCK2-STCK0 from PTCK.", E8 STMS2 (out) "Secondary test mode selects. STMS2-STMS0 retransmit the TMS signal required by IEEE Std 1149.1. Under BYP, MULTICAST, or ON status, the LASP buffers STMS2-STMS0 from PTMS, depending on the state of B\Y\P\4\-B\Y\P\0\ pins or (See Datasheet)", F1 P0 (in) "Position (inputs). The LASP compares position received via linking shadow protocol against the value at P2-P0 to determine position match. The bit order is from most significant to least significant. An internal pullup at (See Datasheet)", F2 P1 (in) "Position (inputs). The LASP compares position received via linking shadow protocol against the value at P2-P0 to determine position match. The bit order is from most significant to least significant. An internal pullup at (See Datasheet)", F3 P2 (in) "Position (inputs). The LASP compares position received via linking shadow protocol against the value at P2-P0 to determine position match. The bit order is from most significant to least significant. An internal pullup at (See Datasheet)", F4 ~{PTRST} (in) "Primary test reset. P\T\R\S\T\ receives the T\R\S\T\ signal allowed by IEEE Std 1149.1. The LASP always buffers P\T\R\S\T\ to S\T\R\S\T\2\-S\T\R\S\T\0\. A low input at P\T\R\S\T\ forces the LASP to assume TRST or BYP/TRST (See Datasheet)", F5 PTDO (hiz) "Primary test data output. PTDO transmits the TDO signal required by IEEE Std 1149.1. During linking shadow protocols, the LASP transmits any required acknowledgment via the PTDO. Under BYP, BYP/TRST, or ON status, the LASP (See Datasheet)", F6 PY (hiz) "Primary pass through (output). A general-purpose output that can be driven from SX2-SX0.", F7 SY2 (hiz) "Secondary pass through (outputs). Primary pass-through input PX drives the general-purpose SY outputs of the secondary TAPs that are connected to the primary TAP. Disconnected secondary TAPs have their SY outputs at high (See Datasheet)", F8 STDO2 (hiz) "Secondary test data outputs. STDO2-STDO0 transmit the TDO signal required by IEEE Std 1149.1. Under BYP, BYP/TRST, MULTICAST, or ON status, the LASP buffers STDO2-STDO0 from STDI2-STDI0, PTDI, or CTDI, depending on the state (See Datasheet)", G2 ~{BYP0} (in) "Bypass (inputs). A low input at B\Y\P\5\ forces the LASP into BYP or BYP/TRST status, depending on P\T\R\S\T\ being high or low, respectively. While B\Y\P\5\ is low, linking shadow protocols are ignored and the remaining (See Datasheet)", G3 ~{BYP3} (in) "Bypass (inputs). A low input at B\Y\P\5\ forces the LASP into BYP or BYP/TRST status, depending on P\T\R\S\T\ being high or low, respectively. While B\Y\P\5\ is low, linking shadow protocols are ignored and the remaining (See Datasheet)", G4 PTMS (in) "Primary test mode select. PTMS receives the TMS signal required by IEEE Std 1149.1. The LASP monitors PTMS to determine the TAP-controller state. During stable TAP states, other than Shift-DR or Shift-IR (i.e., (See Datasheet)", G5 PTDI (in) "Primary test data input. PTDI receives the TDI signal required by IEEE Std 1149.1. During appropriate TAP states, the LASP monitors PTDI for linking shadow protocols. During linking shadow protocols, data at PTDI is captured (See Datasheet)", G7 PX (in) "Primary pass through (input). A general-purpose input driven to SY outputs of the secondary TAPs that are connected to the primary TAP. An internal pullup forces PX to a high level if it has no external connection.", G8 SX2 (in) "Secondary pass through (inputs). General-purpose inputs that can be driven to the PY output of the primary TAP. An internal pullup forces SX2-SX0 to a high level if it has no external connection.", H1 ~{BYP1} (in) "Bypass (inputs). A low input at B\Y\P\5\ forces the LASP into BYP or BYP/TRST status, depending on P\T\R\S\T\ being high or low, respectively. While B\Y\P\5\ is low, linking shadow protocols are ignored and the remaining (See Datasheet)", H2 ~{BYP2} (in) "Bypass (inputs). A low input at B\Y\P\5\ forces the LASP into BYP or BYP/TRST status, depending on P\T\R\S\T\ being high or low, respectively. While B\Y\P\5\ is low, linking shadow protocols are ignored and the remaining (See Datasheet)", H3 ~{BYP4} (in) "Bypass (inputs). A low input at B\Y\P\5\ forces the LASP into BYP or BYP/TRST status, depending on P\T\R\S\T\ being high or low, respectively. While B\Y\P\5\ is low, linking shadow protocols are ignored and the remaining (See Datasheet)", H4 PTCK (in) "Primary test clock. PTCK receives the TCK signal required by IEEE Std 1149.1. The LASP always buffers PTCK to STCK2-STCK0. Linking shadow protocols are received/acknowledged synchronously to PTCK and connect-status changes (See Datasheet)", H5 CTDI (in) "Cascade test data input. CTDI facilitates cascading multiple LASPs. CTDI is connected to CTDO of the preceding LASP in the cascade chain. When the LASP is the first device in the cascade chain or is not cascaded to any other (See Datasheet)", H6 CTDO (out) "Cascade test data output. CTDO facilitates cascading multiple LASPs. CTDO is connected to CTDI of the succeeding LASP in the cascade chain. The LASP buffers CTDO from STDI2-STDI0 or CTDI, depending on the state of (See Datasheet)", H8 ~{CON2} (out) "Connect indicators (outputs). The LASP indicates secondary-scan-port activity (resulting from BYP, BYP/TRST, MULTICAST, or ON status) by forcing the corresponding C\O\N\ bit to be low. Inactivity (resulting from OFF, RESET, (See Datasheet)"
part B pins: A3 GND (power) "Ground", A6 GND (power) "Ground", B5 VCC (power) "Supply voltage", B7 VCC (power) "Supply voltage", C1 GND (power) "Ground", C7 GND (power) "Ground", D7 VCC (power) "Supply voltage", E5 GND (power) "Ground", G1 VCC (power) "Supply voltage", G6 GND (power) "Ground", H7 VCC (power) "Supply voltage"

## SN74LVT8996DW
designator U?
3.3-V ABT 10-Bit Addressable Scan Ports Multidrop-Addressable IEEE STD 1149.1 (JTAG) TAP Transceiver, DW0024A, TUBE; Generic Part Number: SN74LVT8996; Manufacturer: Texas Instruments; PartNumber: SN74LVT8996DW; VCC(Min)(V): 2.7; VCC(Max)(V): 3.6; Output Type: LVTTL; ICC @ Nom Voltage(Max)(mA): 20; Input Type: TTL/CMOS; Bits(#): 10; Rating: Catalog; Technology Family: LVT; Output Drive (IOL/IOH)(Max)(mA): 64/-32; Output Logic: True; DatasheetVersion: SCBS686A; PackageReference: DW0024A; Supplier 1: Mouser; Supplier Part Number 1: 595-SN74LVT8996DW; Supplier 2: Digi-Key; Supplier Part Number 2: 296-8656-5-ND; Operating Temperature Range(C): -40 to 85; ComponentLink1Description: Manufacturer URL; ComponentLink1URL: http://www.ti.com/; ComponentLink2Description: Datasheet; ComponentLink2URL: http://www.ti.com/lit/ds/symlink/sn74lvt8996.pdf
footprint DW0024A_N (SOIC, 24-Leads, Body 15.6x7.6mm, Pitch 1.27mm, IPC Medium Density)
footprint DW0024A_M (SOIC, 24-Leads, Body 15.6x7.6mm, Pitch 1.27mm, IPC Low Density)
footprint DW0024A_L (SOIC, 24-Leads, Body 15.6x7.6mm, Pitch 1.27mm, IPC High Density)
pins: 1 A4 (in) "Address inputs. The ASP compares addresses received via shadow protocol against the value at A9-A0 to determine address match. The bit order is from most significant to least significant. An internal pullup at each A9-A0 (See Datasheet)", 2 A3 (in) "Address inputs. The ASP compares addresses received via shadow protocol against the value at A9-A0 to determine address match. The bit order is from most significant to least significant. An internal pullup at each A9-A0 (See Datasheet)", 3 A2 (in) "Address inputs. The ASP compares addresses received via shadow protocol against the value at A9-A0 to determine address match. The bit order is from most significant to least significant. An internal pullup at each A9-A0 (See Datasheet)", 4 A1 (in) "Address inputs. The ASP compares addresses received via shadow protocol against the value at A9-A0 to determine address match. The bit order is from most significant to least significant. An internal pullup at each A9-A0 (See Datasheet)", 5 A0 (in) "Address inputs. The ASP compares addresses received via shadow protocol against the value at A9-A0 to determine address match. The bit order is from most significant to least significant. An internal pullup at each A9-A0 (See Datasheet)", 6 ~{BYP} (in) "Bypass input. A low input at B\Y\P\ forces the ASP into BYP or BYP/TRST status, depending on P\T\R\S\T\ being high or low, respectively. While B\Y\P\ is low, shadow protocols are ignored. Otherwise, while B\Y\P\ is high, the (See Datasheet)", 7 GND (power) "Ground", 8 PTDO (hiz) "Primary test data output. PTDO transmits the TDO signal required by IEEE Standard 1149.1-1990. During shadow protocols, the ASP transmits any required acknowledgement via the PTDO. The acknowledgement data output at PTDO (See Datasheet)", 9 PTCK (in) "Primary test clock. PTCK receives the TCK signal required by IEEE Standard 1149.1-1990. The ASP always buffers PTCK to STCK. Shadow protocols are received/acknowledged synchronously to PTCK and connect-status changes invoked (See Datasheet)", 10 PTMS (in) "Primary test mode select. PTMS receives the TMS signal required by IEEE Standard 1149.1-1990. The ASP monitors the PTMS to determine the TAP-controller state. During stable TAP states other than Shift-DR or Shift-IR (i.e.(See Datasheet)", 11 PTDI (in) "Primary test data input. PTDI receives the TDI signal required by IEEE Standard 1149.1-1990. During appropriate TAP states, the ASP monitors PTDI for shadow protocols. During shadow protocols, data at PTDI is captured on the (See Datasheet)", 12 ~{PTRST} (in) "Primary test reset. P\T\R\S\T\ receives the T\R\S\T\ signal allowed by IEEE Standard 1149.1-1990. The ASP always buffers P\T\R\S\T\ to S\T\R\S\T\. A low input at PTRST forces the ASP to assume TRST or BYP/TRST status, (See Datasheet)", 13 ~{STRST} (out) "Secondary test reset. S\T\R\S\T\ retransmits the T\R\S\T\ signal allowed by IEEE Standard 1149.1-1990. The ASP always buffers S\T\R\S\T\ from P\T\R\S\T\.", 14 STDO (hiz) "Secondary test data output. STDO transmits the TDO signal required by IEEE Standard 1149.1-1990. Under BYP,BYP/TRST, MULTICAST, or ON status, the ASP buffers STDO from PTDI. Under OFF, RESET, or TRST status, STDO is at high (See Datasheet)", 15 STMS (out) "Secondary test mode select. STMS retransmits the TMS signal required by IEEE Standard 1149.1-1990. Under BYP,MULTICAST, or ON status, the ASP buffers STMS from PTMS. When disconnected (as a result of OFF status), STMS (See Datasheet)", 16 STCK (out) "Secondary test clock. STCK retransmits the TCK signal required by IEEE Standard 1149.1-1990. The ASP always buffers STCK from PTCK.", 17 STDI (in) "Secondary test data input. STDI receives the TDI signal required by IEEE Standard 1149.1-1990. Under BYP,BYP/TRST, or ON status, the ASP buffers STDI to PTDO. An internal pullup forces STDI to a high level if it has no (See Datasheet)", 18 ~{CON} (out) "Connect indicator (output). The ASP indicates secondary-scan-port activity (resulting from BYP, BYP/TRST,MULTICAST, or ON status) by forcing CON to be low. Inactivity (resulting from OFF, RESET, or TRST status) is indicated (See Datasheet)", 19 VCC (power) "Supply voltage", 20 A9 (in) "Address inputs. The ASP compares addresses received via shadow protocol against the value at A9-A0 to determine address match. The bit order is from most significant to least significant. An internal pullup at each A9-A0 (See Datasheet)", 21 A8 (in) "Address inputs. The ASP compares addresses received via shadow protocol against the value at A9-A0 to determine address match. The bit order is from most significant to least significant. An internal pullup at each A9-A0 (See Datasheet)", 22 A7 (in) "Address inputs. The ASP compares addresses received via shadow protocol against the value at A9-A0 to determine address match. The bit order is from most significant to least significant. An internal pullup at each A9-A0 (See Datasheet)", 23 A6 (in) "Address inputs. The ASP compares addresses received via shadow protocol against the value at A9-A0 to determine address match. The bit order is from most significant to least significant. An internal pullup at each A9-A0 (See Datasheet)", 24 A5 (in) "Address inputs. The ASP compares addresses received via shadow protocol against the value at A9-A0 to determine address match. The bit order is from most significant to least significant. An internal pullup at each A9-A0 (See Datasheet)"